# Altium footprint library MICROFIT_2WAY.PcbLib: 1 footprints
Each footprint in its own frame and in the unit in brackets; x right, y up, seen from the top. Pads: shape width x height; smd on the part's side, far side on the other; paste and mask are expansions set on the pad; w line width, h text height; cw(c..) or ccw(c..) is an arc to the next point about the centre after c.
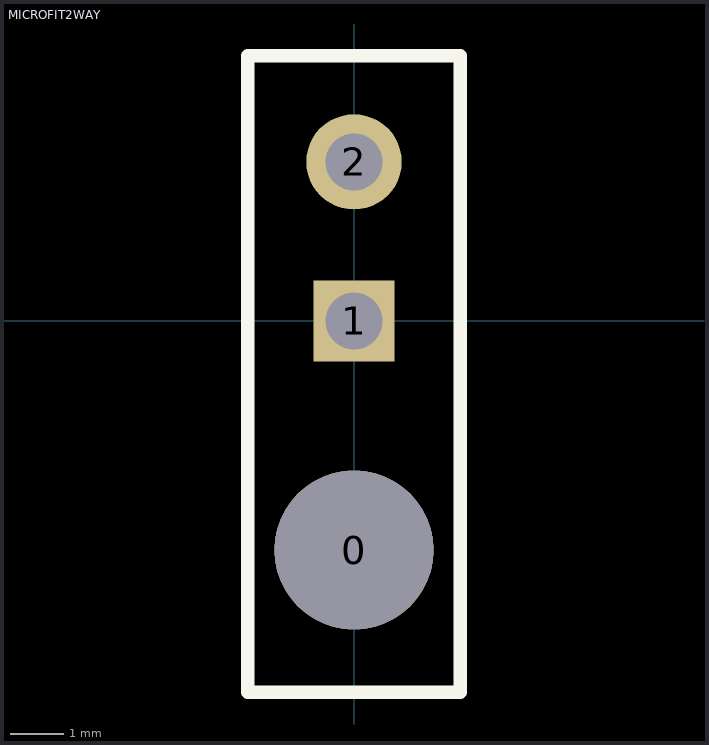
[diagram p0: the footprint, top view; thin cyan lines are the x and y axes]

## MICROFIT2WAY [mm] "MICROFIT2WAY"
pads (3):
  round 3 hole 3 unplated: 0(0,-4.32)
  rect 1.524x1.524 hole 1.07: 1(0,0)
  round 1.8 hole 1.07: 2(0,3)
Top Overlay:
  lines w0.254: -2,-7 2,-7 2,5 -2,5 -2,4 -2,-6 -2,-7